# Altium schematic symbol library Interface Controllers.SchLib: 1 symbol
Pins are listed as number, name and electrical type; pins without a type are passive.

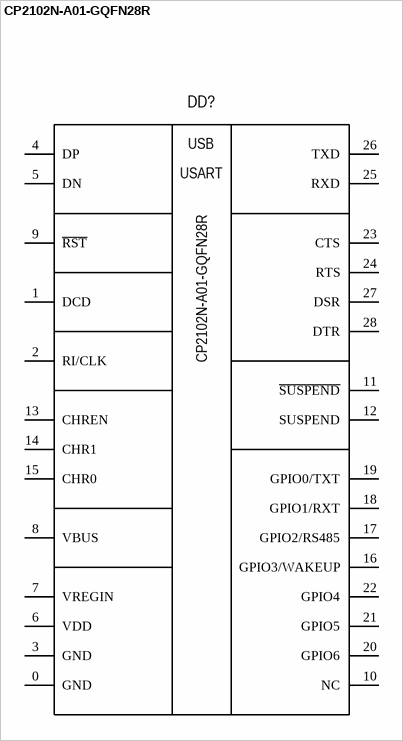
[diagram p0: symbol CP2102N-A01-GQFN28R]

## CP2102N-A01-GQFN28R
designator DD?
USB to UART Interface; Manufacturer: Silicon Labs; Group: Interface - Controllers; Voltage Supply: 2.2 V - 3.6 V; Function: Bridge, USB to UART; Standards: USB 2.0; Package: QFN-28 (5x5); Part name: CP2102N-A01-GQFN28R; Operating Temperature: -40°C +85°C; Thickness: 0.80mm; Dimension: 5.00mm x 5.00mm; Protocol: USB
footprint QFN-28 (5x5) (Footprint not found)
pins: 0 GND, 1 DCD, 2 RI/CLK, 3 GND, 4 DP, 5 DN, 6 VDD, 7 VREGIN, 8 VBUS, 9 ~{RST}, 10 NC, 11 ~{SUSPEND}, 12 SUSPEND, 13 CHREN, 14 CHR1, 15 CHR0, 16 GPIO3/WAKEUP, 17 GPIO2/RS485, 18 GPIO1/RXT, 19 GPIO0/TXT, 20 GPIO6, 21 GPIO5, 22 GPIO4, 23 CTS, 24 RTS, 25 RXD, 26 TXD, 27 DSR, 28 DTR
text: USART